# Altium schematic symbol library NCP164.SchLib: 1 symbol
Pins are listed as number, name and electrical type; pins without a type are passive.

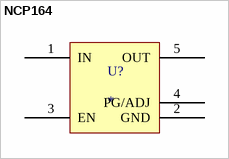
[diagram p0: symbol NCP164]

## NCP164
designator U?
NCP164CSN330T1G
footprint SOT95P275X110-5N
pins: 1 IN, 2 GND, 3 EN, 4 PG/ADJ, 5 OUT